# EAGLE library part RAM_MT46V32M16 (library icnh3)
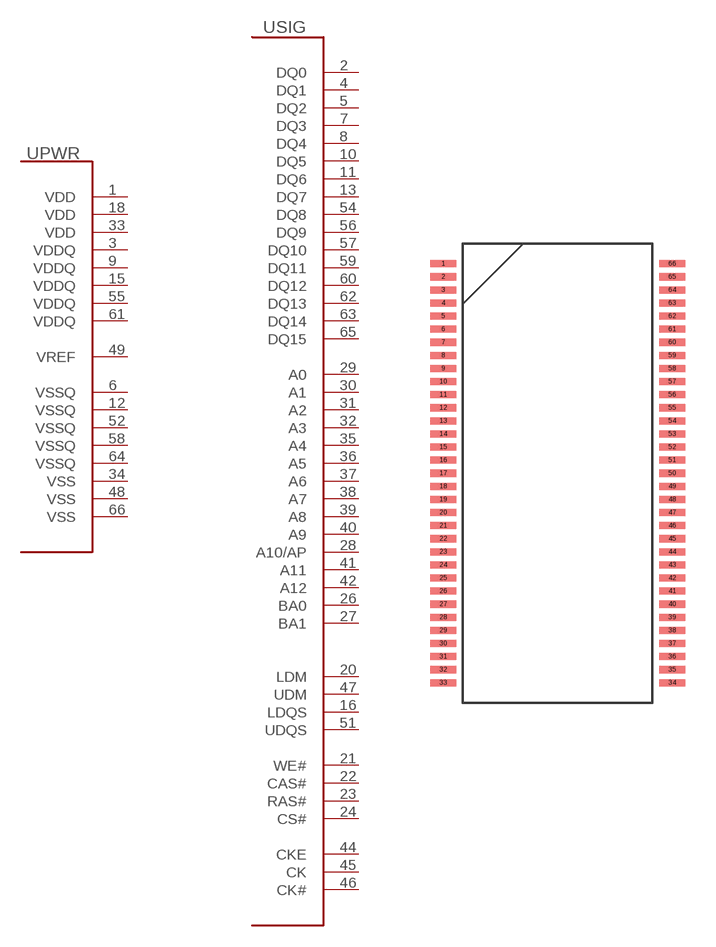
[diagram p0: symbol with the pads of MICRON_TSOP66; footprint MICRON_TSOP66]

Designator prefix U; gates PWR=RAM_POWER SIG=RAM_SIGNALS

## RAM_MT46V32M16  [MICRON_TSOP66]
1  PWR:VDD  pwr
2  SIG:DQ0
3  PWR:VDDQ  pwr
4  SIG:DQ1
5  SIG:DQ2
6  PWR:VSSQ  pwr
7  SIG:DQ3
8  SIG:DQ4
9  PWR:VDDQ  pwr
10  SIG:DQ5
11  SIG:DQ6
12  PWR:VSSQ  pwr
13  SIG:DQ7
15  PWR:VDDQ  pwr
16  SIG:LDQS
18  PWR:VDD  pwr
20  SIG:LDM
21  SIG:WE#
22  SIG:CAS#
23  SIG:RAS#
24  SIG:CS#
26  SIG:BA0
27  SIG:BA1
28  SIG:A10/AP
29  SIG:A0
30  SIG:A1
31  SIG:A2
32  SIG:A3
33  PWR:VDD  pwr
34  PWR:VSS  pwr
35  SIG:A4
36  SIG:A5
37  SIG:A6
38  SIG:A7
39  SIG:A8
40  SIG:A9
41  SIG:A11
42  SIG:A12
44  SIG:CKE
45  SIG:CK
46  SIG:CK#
47  SIG:UDM
48  PWR:VSS  pwr
49  PWR:VREF  pwr
51  SIG:UDQS
52  PWR:VSSQ  pwr
54  SIG:DQ8
55  PWR:VDDQ  pwr
56  SIG:DQ9
57  SIG:DQ10
58  PWR:VSSQ  pwr
59  SIG:DQ11
60  SIG:DQ12
61  PWR:VDDQ  pwr
62  SIG:DQ13
63  SIG:DQ14
64  PWR:VSSQ  pwr
65  SIG:DQ15
66  PWR:VSS  pwr

## Footprint MICRON_TSOP66 (pad centres in mm)
smd 1.3 x 0.35: 1 0.04,0; 2 0.04,-0.65; 3 0.04,-1.3; 4 0.04,-1.95; 5 0.04,-2.6; 6 0.04,-3.25; 7 0.04,-3.9; 8 0.04,-4.55; 9 0.04,-5.2; 10 0.04,-5.85; 11 0.04,-6.5; 12 0.04,-7.15; 13 0.04,-7.8; 14 0.04,-8.45; 15 0.04,-9.1; 16 0.04,-9.75; 17 0.04,-10.4; 18 0.04,-11.05; 19 0.04,-11.7; 20 0.04,-12.35; 21 0.04,-13; 22 0.04,-13.65; 23 0.04,-14.3; 24 0.04,-14.95; 25 0.04,-15.6; 26 0.04,-16.25; 27 0.04,-16.9; 28 0.04,-17.55; 29 0.04,-18.2; 30 0.04,-18.85; 31 0.04,-19.5; 32 0.04,-20.15; 33 0.04,-20.8; 34 11.4,-20.8; 35 11.4,-20.15; 36 11.4,-19.5; 37 11.4,-18.85; 38 11.4,-18.2; 39 11.4,-17.55; 40 11.4,-16.9; 41 11.4,-16.25; 42 11.4,-15.6; 43 11.4,-14.95; 44 11.4,-14.3; 45 11.4,-13.65; 46 11.4,-13; 47 11.4,-12.35; 48 11.4,-11.7; 49 11.4,-11.05; 50 11.4,-10.4; 51 11.4,-9.75; 52 11.4,-9.1; 53 11.4,-8.45; 54 11.4,-7.8; 55 11.4,-7.15; 56 11.4,-6.5; 57 11.4,-5.85; 58 11.4,-5.2; 59 11.4,-4.55; 60 11.4,-3.9; 61 11.4,-3.25; 62 11.4,-2.6; 63 11.4,-1.95; 64 11.4,-1.3; 65 11.4,-0.65; 66 11.4,0